# Altium footprint library Esp32 CAM PCB.PcbLib: 29 footprints (part 2 of 2)
Each footprint in its own frame and in the unit in brackets; x right, y up, seen from the top. Pads: shape width x height; smd on the part's side, far side on the other; paste and mask are expansions set on the pad; w line width, h text height; cw(c..) or ccw(c..) is an arc to the next point about the centre after c.
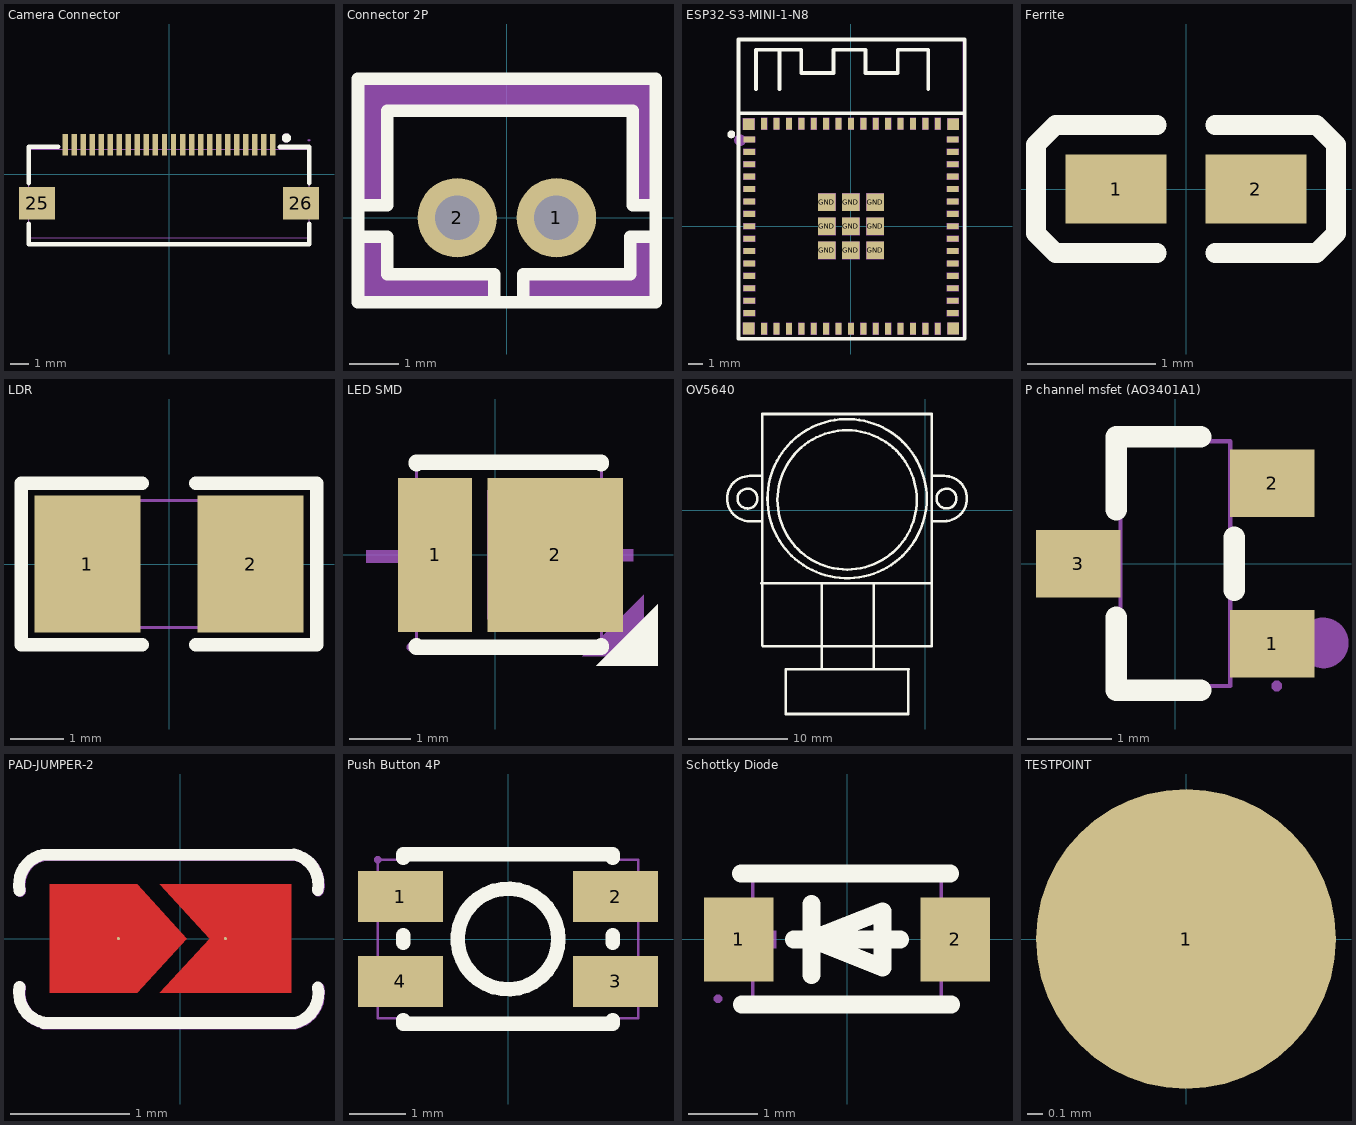
[diagram p1: the footprints below, top view; thin cyan lines are the x and y axes]

## Camera Connector [mm]
pads (26):
  rect 0.3x1.2 smd paste+0 mask+0.05: 1(5.75,1.625) 2(5.25,1.625) 3(4.75,1.625) 4(4.25,1.625) 5(3.75,1.625) 6(3.25,1.625) 7(2.75,1.625) 8(2.25,1.625) 9(1.75,1.625) 10(1.25,1.625) 11(0.75,1.625) 12(0.25,1.625) 13(-0.25,1.625) 14(-0.75,1.625) 15(-1.25,1.625) 16(-1.75,1.625) 17(-2.25,1.625) 18(-2.75,1.625) 19(-3.25,1.625) 20(-3.75,1.625) 21(-4.25,1.625) 22(-4.75,1.625) 23(-5.25,1.625) 24(-5.75,1.625)
  rect 2x1.8 smd paste+0 mask+0.05: 25(-7.3,-1.625) 26(7.3,-1.625)
Top Overlay:
  circle w0.254: c6.5,2 r0.127
  lines w0.254: -7.753,-2.756 -7.753,-3.875 7.75,-3.875 7.75,-2.756 ; -7.753,-0.494 -7.753,1.524 -6.131,1.524 ; 6.131,1.5 7.75,1.5 7.75,-0.494
Mechanical 6:
  circle w0.254: c6.5,2 r0.127
Mechanical 15:
  region: -7.75,-1.025 -6.55,-1.025 -6.55,-2.225 -7.75,-2.225
  region: 6.55,-1.025 7.75,-1.025 7.75,-2.225 6.55,-2.225
  region: -5.85,1.87 -5.65,1.87 -5.65,1.17 -5.85,1.17
  region: -5.35,1.87 -5.15,1.87 -5.15,1.17 -5.35,1.17
  region: -4.85,1.87 -4.65,1.87 -4.65,1.17 -4.85,1.17
  region: -4.35,1.87 -4.15,1.87 -4.15,1.17 -4.35,1.17
  region: -3.85,1.87 -3.65,1.87 -3.65,1.17 -3.85,1.17
  region: -3.35,1.87 -3.15,1.87 -3.15,1.17 -3.35,1.17
  region: -2.85,1.87 -2.65,1.87 -2.65,1.17 -2.85,1.17
  region: -2.35,1.87 -2.15,1.87 -2.15,1.17 -2.35,1.17
  region: -1.85,1.87 -1.65,1.87 -1.65,1.17 -1.85,1.17
  region: -1.35,1.87 -1.15,1.87 -1.15,1.17 -1.35,1.17
  region: -0.85,1.87 -0.65,1.87 -0.65,1.17 -0.85,1.17
  region: -0.35,1.87 -0.15,1.87 -0.15,1.17 -0.35,1.17
  region: 0.15,1.87 0.35,1.87 0.35,1.17 0.15,1.17
  region: 0.65,1.87 0.85,1.87 0.85,1.17 0.65,1.17
  region: 1.15,1.87 1.35,1.87 1.35,1.17 1.15,1.17
  region: 1.65,1.87 1.85,1.87 1.85,1.17 1.65,1.17
  region: 2.15,1.87 2.35,1.87 2.35,1.17 2.15,1.17
  region: 2.65,1.87 2.85,1.87 2.85,1.17 2.65,1.17
  region: 3.15,1.87 3.35,1.87 3.35,1.17 3.15,1.17
  region: 3.65,1.87 3.85,1.87 3.85,1.17 3.65,1.17
  region: 4.15,1.87 4.35,1.87 4.35,1.17 4.15,1.17
  region: 4.65,1.87 4.85,1.87 4.85,1.17 4.65,1.17
  region: 5.15,1.87 5.35,1.87 5.35,1.17 5.15,1.17
  region: 5.65,1.87 5.85,1.87 5.85,1.17 5.65,1.17
  region: 7.81,1.87 7.809,1.894 7.774,1.927 7.726,1.927 7.691,1.894 7.69,1.87 7.691,1.846 7.726,1.813 7.774,1.813 7.809,1.846
  lines w0.051: -7.75,-3.53 7.75,-3.53 7.75,1.37 -7.75,1.37 -7.75,-3.53
3D body "24P OV5640 Camera connector SMD.STEP": height 2, standoff -0.05, extent -7.75,-3.556 7.75,2.094

## Connector 2P [mm]
pads (2):
  round 1.6 hole 0.9: 1(1,0) 2(-1,0)
Top Overlay:
  lines w0.254: -2.921,-0.381 -2.413,-0.381 -2.413,-1.143 -0.254,-1.143 -0.254,-1.651 ; -2.921,0.254 -2.413,0.254 -2.413,2.159 2.54,2.159 2.54,0.254 2.921,0.254 ; 0.333,-1.651 0.333,-1.143 2.492,-1.143 2.492,-0.381 3,-0.381 ; -3,-1.7 -3,2.8 3,2.8 3,-1.7 -3,-1.7
Mechanical 6:
  region: -0.254,-1.143 -0.254,-1.651 -2.921,-1.651 -2.921,-0.381 -2.413,-0.381 -2.413,-1.143
  region: 3,-0.381 2.492,-0.381 2.492,-1.143 0.333,-1.143 0.333,-1.651 3.048,-1.651
  region: 2.921,0.254 2.54,0.254 2.54,2.159 -2.413,2.159 -2.413,0.254 -2.921,0.254 -2.921,2.794 2.921,2.794
Mechanical 15:
  region: -0.75,-0.25 -1.25,-0.25 -1.25,0.25 -0.75,0.25
  region: 1.25,-0.25 0.75,-0.25 0.75,0.25 1.25,0.25
  region: 3.01,2.8 3.009,2.825 2.974,2.859 2.925,2.859 2.891,2.825 2.89,2.8 2.891,2.776 2.925,2.741 2.974,2.741 3.009,2.776
  lines w0.051: -2.95,-1.7 2.95,-1.7 2.95,2.8 -2.95,2.8 -2.95,-1.7
3D body "JST 2Pin.stp": height 6, standoff -3.4, extent -2.95,-1.573 2.95,2.927

## ESP32-S3-MINI-1-N8 [mm]
pads (73):
  rect 0.8x0.4 smd paste+0 mask+0.05: 1(-6.975,5.95) 2(-6.975,5.1) 3(-6.975,4.25) 4(-6.975,3.4) 5(-6.975,2.55) 6(-6.975,1.7) 7(-6.975,0.85) 8(-6.975,0) 9(-6.975,-0.85) 10(-6.975,-1.7) 11(-6.975,-2.55) 12(-6.975,-3.4) 13(-6.975,-4.25) 14(-6.975,-5.1) 15(-6.975,-5.95) 31(6.975,-5.95) 32(6.975,-5.1) 33(6.975,-4.25) 34(6.975,-3.4) 35(6.975,-2.55) 36(6.975,-1.7) 37(6.975,-0.85) 38(6.975,0) 39(6.975,0.85) 40(6.975,1.7) 41(6.975,2.55) 42(6.975,3.4) 43(6.975,4.25) 44(6.975,5.1) 45(6.975,5.95)
  rect 0.4x0.8 smd paste+0 mask+0.05: 16(-5.95,-7.025) 17(-5.1,-7.025) 18(-4.25,-7.025) 19(-3.4,-7.025) 20(-2.55,-7.025) 21(-1.7,-7.025) 22(-0.85,-7.025) 23(0,-7.025) 24(0.85,-7.025) 25(1.7,-7.025) 26(2.55,-7.025) 27(3.4,-7.025) 28(4.25,-7.025) 29(5.1,-7.025) 30(5.95,-7.025) 46(5.95,7.025) 47(5.1,7.025) 48(4.25,7.025) 49(3.4,7.025) 50(2.55,7.025) 51(1.7,7.025) 52(0.85,7.025) 53(0,7.025) 54(-0.85,7.025) 55(-1.7,7.025) 56(-2.55,7.025) 57(-3.4,7.025) 58(-4.25,7.025) 59(-5.1,7.025) 60(-5.95,7.025)
  rect 0.8x0.8 smd paste+0 mask+0.05: GND(-7,-7) GND(-7,7) GND(7,-7) GND(7,7)
  rect 1.2x1.2 smd paste+0 mask+0.05: GND(-1.65,-1.65) GND(-1.65,0) GND(-1.65,1.65) GND(0,-1.65) GND(0,0) GND(0,1.65) GND(1.65,-1.65) GND(1.65,0) GND(1.65,1.65)
Top Overlay:
  circle w0.254: c-8.2,6.3 r0.141
  lines w0.254: -7.7,7.75 7.8,7.75 7.8,7.786 ; -6.5,9.4 -6.5,12.1 -4.9,12.1 ; -4.9,9.4 -4.9,12.1 ; 5.3,9.4 5.3,12.1 3.2,12.1 3.2,10.5 1,10.5 1,12.1 -1.2,12.1 -1.2,10.5 -3.4,10.5 -3.4,12.1 -4.9,12.1 ; -7.7,-7.7 7.8,-7.7 7.8,12.8 -7.7,12.8 -7.7,-7.7
Mechanical 6:
  circle w0.4: c-7.6,5.9 r0.2
Mechanical 15:
  drawing of 78 lines, arcs and shapes, not listed
3D body "ESP32-S3-MINI-1-N8.stp": height 2.55, standoff 0, extent -7.7,-7.725 7.7,12.775

## Ferrite [mm]
pads (2):
  rect 0.79x0.54 smd paste-100 mask+0.051: 1(-0.545,0) 2(0.545,0)
Top Overlay:
  lines w0.152: -0.226,-0.499 -1.016,-0.499 -1.169,-0.346 -1.169,0.346 -1.016,0.499 -0.226,0.499 ; 0.226,-0.499 1.016,-0.499 1.169,-0.346 1.169,0.346 1.016,0.499 0.226,0.499
Top Paste:
  region: 0.135,-0.086 0.135,0.086 0.404,0.27 0.9,0.27 0.94,0.23 0.94,-0.23 0.9,-0.27 0.404,-0.27
  region: -0.135,-0.086 -0.135,0.086 -0.404,0.27 -0.9,0.27 -0.94,0.23 -0.94,-0.23 -0.9,-0.27 -0.404,-0.27
3D body "Ferrite Bead BLM15AG601SN1D.step": height 0.55, standoff 0, extent -0.551,-0.225 0.449,0.275

## LDR [mm]
pads (2):
  rect 2x2.592 smd paste+0 mask+0.051: 1(-1.542,0) 2(1.542,0)
Top Overlay:
  lines w0.254: -0.508,-1.524 -2.794,-1.524 -2.794,1.524 -0.508,1.524 ; 0.508,-1.524 2.794,-1.524 2.794,1.524 0.508,1.524
Mechanical 15:
  region: 0.7,-1.2 1.8,-1.2 1.8,1.2 0.7,1.2
  region: -1.8,-1.2 -0.7,-1.2 -0.7,1.2 -1.8,1.2
  region: -1.74,-1.2 -1.741,-1.175 -1.776,-1.141 -1.825,-1.141 -1.86,-1.175 -1.86,-1.2 -1.86,-1.224 -1.825,-1.259 -1.776,-1.259 -1.741,-1.224
  lines w0.051: -1.8,-1.2 -1.8,1.2 1.8,1.2 1.8,-1.2 -1.8,-1.2

## LED SMD [mm]
pads (2):
  rect 1.2x2.5 smd paste+0 mask+0.051: 1(-0.975,0)
  rect 2.2x2.5 smd paste+0 mask+0.051: 2(0.975,0)
Top Overlay:
  region: 2.645,-1.8 1.645,-1.8 2.645,-0.8
  lines w0.254: -1.275,-1.481 -1.275,-1.5 1.725,-1.5 1.725,-1.481 ; 1.725,1.481 1.725,1.5 -1.275,1.5 ; -1.275,1.5 -1.275,1.481 -1.275,1.5
Mechanical 6:
  region: 2.415,-1.651 1.415,-1.651 2.415,-0.651
  region: -1.295,-0.13 -2.095,-0.13 -2.095,0.07 -0.895,0.07 -0.895,-0.13
  region: 1.765,0.22 1.765,-0.58 1.565,-0.58 1.565,0.62 1.765,0.62
  region: 1.843,-0.107 1.043,-0.107 1.043,0.093 2.243,0.093 2.243,-0.107
Mechanical 15:
  region: 1.825,-1.05 -0.125,-1.05 -0.125,1.05 1.825,1.05
  region: -0.375,-1.05 -1.375,-1.05 -1.375,1.05 -0.375,1.05
  region: -1.315,-1.5 -1.315,-1.475 -1.35,-1.44 -1.4,-1.44 -1.435,-1.475 -1.435,-1.5 -1.435,-1.525 -1.4,-1.56 -1.35,-1.56 -1.315,-1.525
  lines w0.051: -1.275,-1.5 1.725,-1.5 1.725,1.5 -1.275,1.5 -1.275,-1.5

## OV5640 [mm]
Top Overlay:
  circle w0.254: c2.117,1.155 r1
  circle w0.254: c-17.883,1.151 r1
  circle w0.254: c-7.874,1.143 r8
  circle w0.254: c-7.874,1.016 r7
  lines w0.254: -16.492,-7.366 0.508,-7.366 ; -16.401,-1.122 -17.671,-1.122 cw(c-17.664,1.151) -17.672,3.425 -16.401,3.425 ; -16.383,-13.588 -16.383,9.652 ; -16.374,9.652 0.626,9.652 ; -16.365,-13.716 0.635,-13.716 ; -14.034,-16.002 -14.034,-20.502 -1.734,-20.502 -1.734,-16.002 ; -13.97,-16.002 -1.67,-16.002 ; -10.414,-15.866 -10.414,-7.366 ; -5.193,-15.866 -5.193,-7.366 ; 0.635,-13.589 0.635,9.651 ; 0.635,-1.118 1.906,-1.118 ccw(c1.898,1.155) 1.905,3.429 0.635,3.429

## P channel msfet (AO3401A1) [mm]
pads (3):
  rect 1x0.8 smd paste+0 mask+0.051: 1(1.15,-0.95) 2(1.15,0.95) 3(-1.15,0)
Top Overlay:
  lines w0.254: -0.7,-0.636 -0.7,-1.5 0.3,-1.5 ; -0.7,0.636 -0.7,1.5 0.3,1.5 ; 0.7,-0.314 0.7,0.314
Mechanical 6:
  circle w0.3: c1.753,-0.94 r0.15
Mechanical 15:
  region: -1.2,-0.2 -1.2,0.2 -0.8,0.2 -0.8,-0.2
  region: -0.81,-0.2 -0.81,0.2 -0.64,0.2 -0.64,-0.2
  region: 0.8,0.75 0.8,1.15 1.2,1.15 1.2,0.75
  region: 0.64,0.75 0.64,1.15 0.81,1.15 0.81,0.75
  region: 0.8,-1.15 0.8,-0.75 1.2,-0.75 1.2,-1.15
  region: 0.64,-1.15 0.64,-0.75 0.81,-0.75 0.81,-1.15
  region: 1.26,-1.45 1.26,-1.425 1.225,-1.39 1.175,-1.39 1.14,-1.425 1.14,-1.45 1.14,-1.475 1.175,-1.51 1.225,-1.51 1.26,-1.475
  lines w0.051: -0.65,-1.45 0.65,-1.45 0.65,1.45 -0.65,1.45 -0.65,-1.45
3D body "A03401A .step": height 1.25, standoff 0, extent -1.499,-1.549 1.499,1.549

## PAD-JUMPER-2 [mil]
pads (2):
  round 1 smd mask+4: 1(-20.53,0.09) 2(14.97,0.09)
Top Layer:
  region: -14.28,-17.91 -43.28,-17.91 -43.28,18.09 -14.28,18.09 2.22,0.09
  region: -6.78,18.09 36.72,18.09 36.72,-17.91 -6.78,-17.91 9.72,0.09
Top Overlay:
  lines w3.94: -53.28,-15.91 ccw(c-43.44,-17.88) -45.4,-27.72 ; -53.28,16.09 cw(c-43.44,18.07) -45.4,27.91 37.69,27.91 ; -45.4,-27.91 37.72,-27.91 ccw(c35.76,-18.07) 45.6,-16.09 ; 37.69,28 cw(c35.73,18.16) 45.56,16.19
Top Paste:
  region: 34.47,17.81 17.57,17.81 15.57,15.84 15.57,6.87 15.57,-6.12 15.57,-15.65 17.57,-17.62 34.47,-17.62 36.44,-15.65 36.44,15.84
  region: -23.81,17.81 -40.71,17.81 -42.71,15.84 -42.71,6.87 -42.71,-6.13 -42.71,-15.65 -40.71,-17.62 -23.81,-17.62 -21.84,-15.65 -21.84,15.84
Top Solder:
  region: -14.26,-17.93 -43.26,-17.93 -43.26,18.07 -14.26,18.07 2.24,0.07
  region: -6.84,18.06 36.66,18.06 36.66,-17.94 -6.84,-17.94 9.66,0.06
Top Assembly:
  lines w3.94: -53.08,-16.08 ccw(c-43.24,-18.05) -45.2,-27.89 ; -53.08,15.92 cw(c-43.24,17.89) -45.2,27.73 37.89,27.73 ; -45.2,-28.08 37.92,-28.08 ccw(c35.96,-18.24) 45.8,-16.27 ; 37.89,27.83 cw(c35.93,17.99) 45.76,16.02

## PCBComponent_1 [mm]

## Push Button 4P [mm]
pads (4):
  rect 1.5x0.9 smd paste+0 mask+0.051: 1(-1.9,0.75) 2(1.9,0.75) 3(1.9,-0.75) 4(-1.9,-0.75)
Top Overlay:
  circle w0.254: c0,0 r0.889
  lines w0.254: -1.85,-1.431 -1.85,-1.5 1.85,-1.5 1.85,-1.431 ; -1.85,-0.069 -1.85,0.069 ; -1.85,1.431 -1.85,1.5 1.85,1.5 1.85,1.431 ; 1.85,-0.069 1.85,0.069
Mechanical 15:
  region: -2.24,1.4 -2.24,1.425 -2.275,1.46 -2.325,1.46 -2.36,1.425 -2.36,1.4 -2.36,1.375 -2.325,1.34 -2.275,1.34 -2.24,1.375
  region: -2.3,1.05 -1.7,1.05 -1.7,0.45 -2.3,0.45
  region: -2.3,-0.45 -1.7,-0.45 -1.7,-1.05 -2.3,-1.05
  region: 1.7,-0.45 2.3,-0.45 2.3,-1.05 1.7,-1.05
  region: 1.7,1.05 2.3,1.05 2.3,0.45 1.7,0.45
  lines w0.051: -2.3,-1.4 -2.3,1.4 2.3,1.4 2.3,-1.4 -2.3,-1.4
3D body "PTS810 SJM 250 SMTR LFS--3DModel-STEP-56544.STEP": height 2.7, standoff 0, extent -2.427,-1.549 2.173,1.651

## Schottky Diode [mm]
pads (2):
  rect 1x1.2 smd paste+0 mask+0.051: 1(-1.55,0) 2(1.55,0)
Top Overlay:
  lines w0.254: -1.52,0.947 1.48,0.947 ; -1.507,-0.933 1.493,-0.933 ; -0.762,0 0.762,0 ; -0.508,-0.508 -0.508,0.508 ; -0.508,0 0.508,0.406 0.508,-0.406 -0.508,0
Mechanical 6:
  region: 1.143,0.127 2.032,0.127 2.032,-0.127 1.143,-0.127
  region: 1.471,-0.436 1.471,0.453 1.725,0.453 1.725,-0.436
  region: -1.905,0.127 -1.016,0.127 -1.016,-0.127 -1.905,-0.127
Mechanical 15:
  region: 1.3,-0.5 1.3,0.5 1.85,0.5 1.85,-0.5
  region: -1.85,-0.5 -1.85,0.5 -1.3,0.5 -1.3,-0.5
  region: -1.79,-0.85 -1.791,-0.826 -1.826,-0.791 -1.875,-0.791 -1.909,-0.826 -1.91,-0.85 -1.909,-0.875 -1.874,-0.909 -1.825,-0.909 -1.79,-0.874
  lines w0.051: -1.35,-0.85 1.35,-0.85 1.35,0.85 -1.35,0.85 -1.35,-0.85
3D body "MBR120VLSFT1G Schottky diode.step": height 0.98, standoff 0, extent -1.8,-0.825 1.8,0.825

## TESTPOINT [mm]
pads (1):
  round 2 smd: 1(0,0)